# Altium footprint library Capacitor Electrolytic Snap-In Radial.PcbLib: 97 footprints (part 2 of 7)
Each footprint in its own frame and in the unit in brackets; x right, y up, seen from the top. Pads: shape width x height; smd on the part's side, far side on the other; paste and mask are expansions set on the pad; w line width, h text height; cw(c..) or ccw(c..) is an arc to the next point about the centre after c.
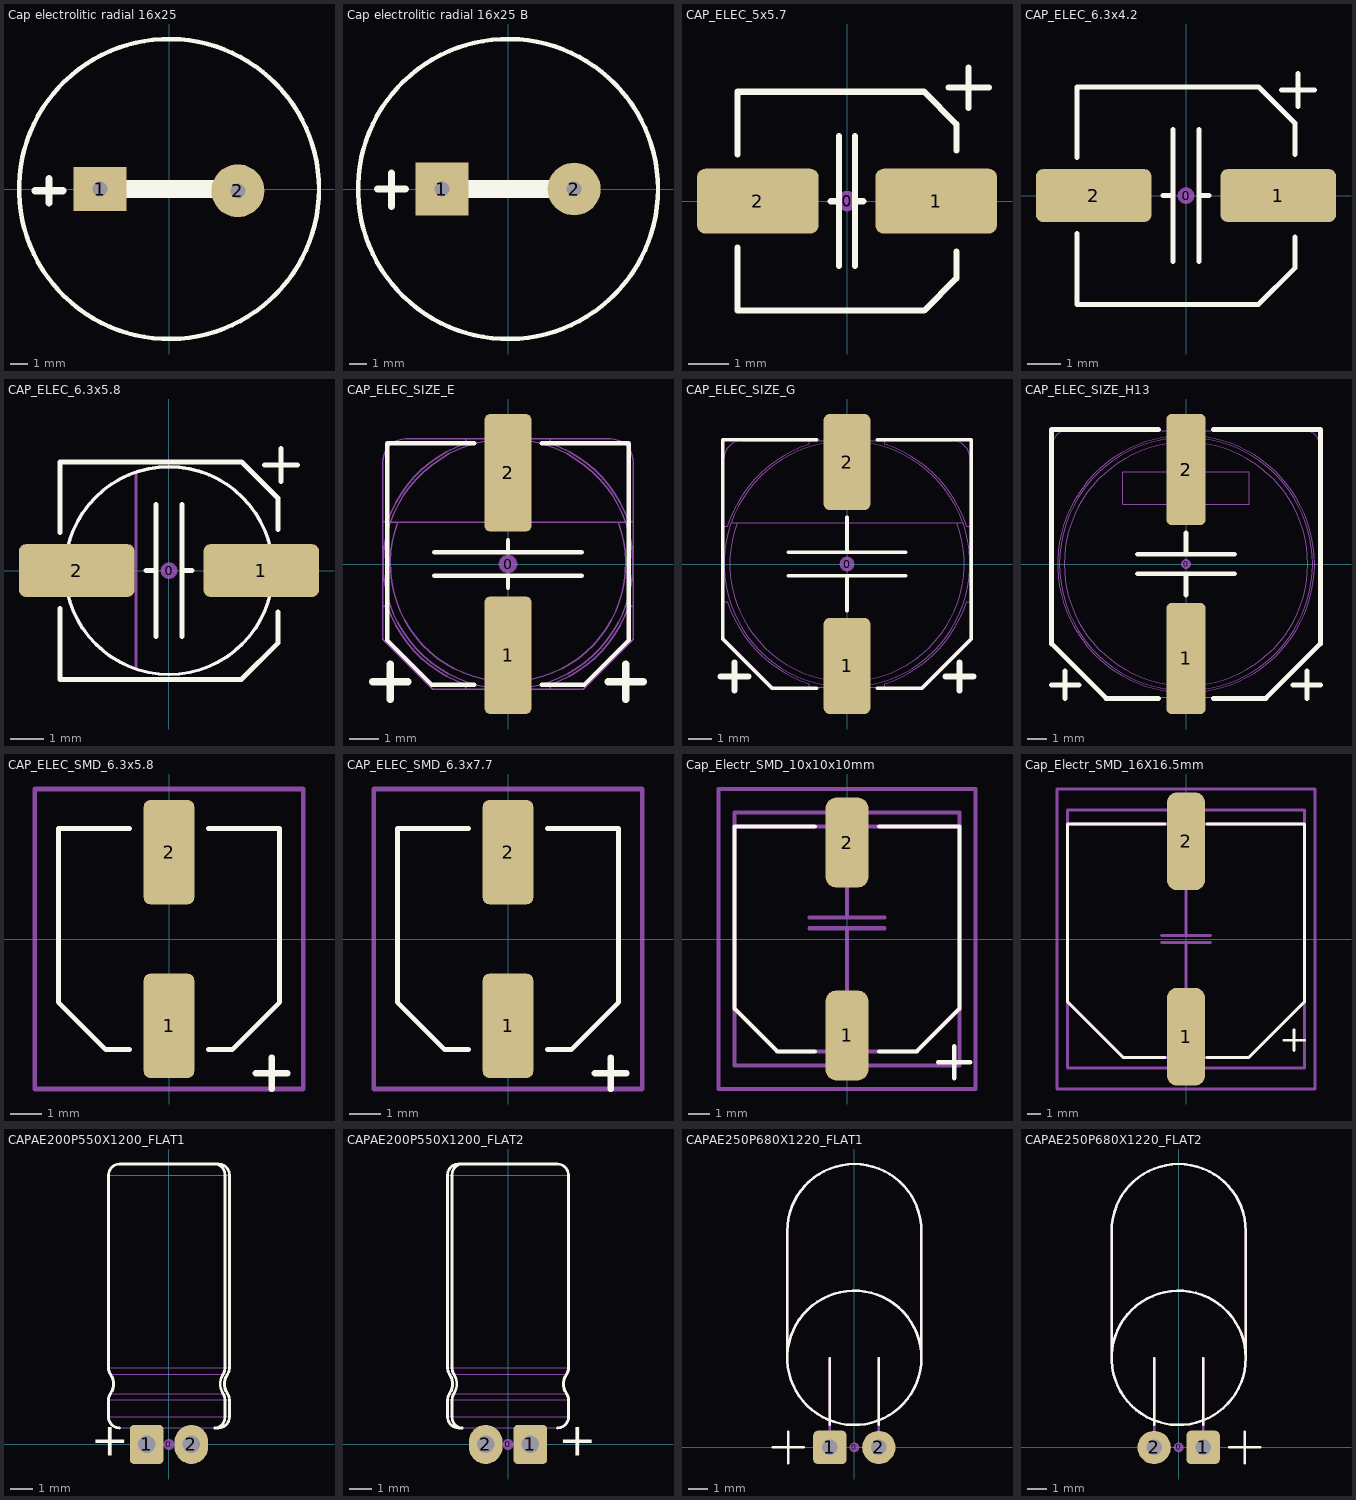
[diagram p1: the footprints below, top view; thin cyan lines are the x and y axes]

## Cap electrolitic radial 16x25 [mm]
pads (2):
  rect 3x2.5 hole 0.85: 1(-3.9,0)
  round 3 hole 0.85: 2(3.9,-0.1)
Top Overlay:
  circle w0.254: c0,0 r8.5
  lines w0.4: -7.6,-0.1 -6,-0.1 ; -6.8,-0.8 -6.8,0.6
  lines w1: -3.9,0 3.9,0
3D body "User Library-Cap electrolitic radial 16x25.STEP": height 25.8, standoff -0.7, extent -7.997,-8.099 7.997,7.898

## Cap electrolitic radial 16x25 B [mm]
pads (2):
  rect 3x3 hole 0.85: 1(-3.75,0)
  round 3 hole 0.85: 2(3.75,0)
Top Overlay:
  circle w0.254: c0,0 r8.5
  lines w0.4: -7.4,0 -5.8,0 ; -6.6,-1 -6.6,0.9
  lines w1: -3.75,0 3.75,0
3D body "User Library-Cap electrolitic radial 16x25.STEP": height 25.8, standoff -0.7, extent -7.997,-8.099 7.997,7.898

## CAP_ELEC_5x5.7 [mm] "Capacitor, polarized, aluminum can; 5x5.7mm DxH"
height 5.7
pads (3):
  round 0.508 on Mech15: 0(0,0)
  rrect25% 3x1.6 smd: 1(2.2,0) 2(-2.2,0)
Top Overlay:
  lines w0.152: -2.7,-1.15 -2.7,-2.7 1.9,-2.7 2.7,-1.9 2.7,-1.25 ; -2.7,1.15 -2.7,2.7 1.9,2.7 2.7,1.9 2.7,1.25 ; -0.4,0 -0.2,0 ; -0.2,-1.6 -0.2,1.6 ; 0.2,-1.6 0.2,1.6 ; 0.2,0 0.4,0 ; 2.5,2.8 3,2.8 3.5,2.8 ; 3,2.3 3,3.3
3D body "Cap, elec, 5x5.7_.STEP": height 5.7, standoff 0, extent -2.65,-2.65 2.65,2.65

## CAP_ELEC_6.3x4.2 [mm] "Capacitor, polarized, aluminum can; 6.3x4.2mm DxH"
height 4.2
pads (3):
  round 0.508 on Mech15: 0(0,0)
  rrect25% 3.5x1.6 smd: 1(2.8,0) 2(-2.8,0)
Top Overlay:
  lines w0.152: -3.3,-1.15 -3.3,-3.3 2.2,-3.3 3.3,-2.2 3.3,-1.25 ; -3.3,1.15 -3.3,3.3 2.2,3.3 3.3,2.2 3.3,1.25 ; -0.7,0 -0.5,0 ; -0.4,-2 -0.4,2 ; 0.4,-2 0.4,2 ; 0.5,0 0.7,0 ; 2.9,3.2 3.4,3.2 3.9,3.2 ; 3.4,2.7 3.4,3.7
3D body "Cap, elec, 6.3x4.2.STEP": height 4.23, standoff 0, extent -3.3,-3.3 3.3,3.3

## CAP_ELEC_6.3x5.8 [mm] "Capacitor, polarized, aluminum can; 6.3x5.7mm DxH"
height 6.1
pads (3):
  round 0.508 on Mech15: 0(0,0)
  rrect25% 3.5x1.6 smd: 1(2.8,0) 2(-2.8,0)
Top Overlay:
  circle w0.1: c0,0 r3.15
  lines w0.152: -3.3,-1.15 -3.3,-3.3 2.2,-3.3 3.3,-2.2 3.3,-1.25 ; -3.3,1.15 -3.3,3.3 2.2,3.3 3.3,2.2 3.3,1.25 ; -0.7,0 -0.5,0 ; -0.4,-2 -0.4,2 ; 0.4,-2 0.4,2 ; 0.5,0 0.7,0 ; 2.9,3.2 3.4,3.2 3.9,3.2 ; 3.4,2.7 3.4,3.7
Mechanical 1:
  circle w0.1: c0,0 r3.15
  circle w0.1: c0,0 r3.15
  lines w0.1: -1,-2.987 -1,2.987
3D body: height 6.1, standoff 0, extent -1,-3.15 3.15,3.125
3D body: height 6.1, standoff 0, extent -3.2,-2.987 -1,2.987
3D body: height 0.75, standoff 0, extent -0.5,-3.513 -0.5,-3.513

## CAP_ELEC_SIZE_E [mm] "Capacitor, polarized, aluminum can; 8.0x6.2mm DxH"
height 6.2
pads (3):
  round 0.635 on Mech15: 0(0,0)
  rrect25% 1.6x4 smd: 1(0,-3.1) 2(0,3.1)
Top Overlay:
  lines w0.152: -2.5,-0.4 2.5,-0.4 ; -2.5,0.4 2.5,0.4 ; -1.15,-4.1 -2.6,-4.1 -4.1,-2.6 -4.1,4.1 -1.15,4.1 ; 0,-0.8 0,-0.4 ; 0,0.4 0,0.8 ; 1.15,-4.1 2.6,-4.1 4.1,-2.6 4.1,4.1 1.15,4.1
  lines w0.254: -4.6,-4 -3.4,-4 ; -4,-4.6 -4,-3.4 ; 3.4,-4 4.6,-4 ; 4,-4.6 4,-3.4
Mechanical 13:
  lines w0.05: -4.25,-1.436 -4.106,-1.436 ccw(c0,0) -1.436,-4.106 -1.436,-4.25 ; -4.25,1.436 -4.106,1.436 cw(c0,0) -1.436,4.106 -1.436,4.25 ; -4.005,1.417 cw(c0,0) 4.005,1.417 ; -3.741,1.417 ccw(c0,0) 3.741,1.417 ; -0.325,-4.25 -0.325,-4.75 0.325,-4.75 0.325,-4.25 ; -0.325,4.25 -0.325,4.75 0.325,4.75 0.325,4.25 ; 1.436,-4.25 1.436,-4.106 ccw(c0,0) 4.106,-1.436 4.25,-1.436 ; 1.436,4.25 1.436,4.106 cw(c0,0) 4.106,1.436 4.25,1.436 ; -4.25,-2.55 -2.55,-4.25 2.55,-4.25 4.25,-2.55 4.25,3.5 ccw(c3.5,3.5) 3.5,4.25 -3.5,4.25 ccw(c-3.5,3.5) -4.25,3.5 -4.25,-2.55 ; -4.007,1.417 ccw(c0,0) 4.007,1.417 -4.007,1.417
3D body "CAP Alum Elec Size E.STEP": height 6.5, standoff 0, extent -4.25,-4.75 4.25,4.75

## CAP_ELEC_SIZE_G [mm] "Capacitor, polarized, aluminum can; 10.0x10.2mm DxH"
height 10.2
pads (3):
  round 0.635 on Mech15: 0(0,0)
  rrect25% 2x4.1 smd: 1(0,-4.35) 2(0,4.35)
Top Overlay:
  lines w0.152: -2.5,-0.5 2.5,-0.5 ; -2.5,0.5 2.5,0.5 ; -1.3,-5.3 -3.2,-5.3 -5.3,-3.2 -5.3,5.3 -1.3,5.3 ; 0,-2 0,-0.5 ; 0,0.5 0,2 ; 1.3,-5.3 3.2,-5.3 5.3,-3.2 5.3,5.3 1.3,5.3
  lines w0.254: -5.4,-4.8 -4.2,-4.8 ; -4.8,-5.4 -4.8,-4.2 ; 4.2,-4.8 5.4,-4.8 ; 4.8,-5.4 4.8,-4.2
Mechanical 13:
  lines w0.05: -5.25,-1.601 -5.105,-1.601 ccw(c0,0) -1.601,-5.105 -1.601,-5.25 ; -5.25,1.601 -5.105,1.601 cw(c0,0) -1.601,5.105 -1.601,5.25 ; -4.948,1.75 cw(c0,0) 4.948,1.75 ; -4.684,1.75 ccw(c0,0) 4.684,1.75 ; -0.45,-5.25 -0.45,-6 0.45,-6 0.45,-5.25 ; -0.45,5.25 -0.45,6 0.45,6 0.45,5.25 ; 1.601,-5.25 1.601,-5.105 ccw(c0,0) 5.105,-1.601 5.25,-1.601 ; 1.601,5.25 1.601,5.105 cw(c0,0) 5.105,1.601 5.25,1.601 ; -5.25,-3.15 -3.15,-5.25 3.15,-5.25 5.25,-3.15 5.25,4.5 ccw(c4.5,4.5) 4.5,5.25 -4.5,5.25 ccw(c-4.5,4.5) -5.25,4.5 -5.25,-3.15 ; -4.95,1.75 ccw(c0,0) 4.95,1.75 -4.95,1.75
3D body "CAP Alum Elec Size G.STEP": height 10.5, standoff 0, extent -5.25,-6 5.25,6

## CAP_ELEC_SIZE_H13 [mm] "Capacitor, polarized, aluminum can; 12.5x13.5mm DxH"
height 13.5
pads (3):
  round 0.508 on Mech15: 0(0,0)
  rrect25% 2x5.7 smd: 1(0,-4.85) 2(0,4.85)
Top Overlay:
  lines w0.254: -6.9,-6.2 -5.5,-6.2 ; -6.2,-6.9 -6.2,-5.5 ; -2.5,-0.5 2.5,-0.5 ; -2.5,0.5 2.5,0.5 ; -1.4,-6.9 -4.1,-6.9 -6.9,-4.1 -6.9,6.9 -1.4,6.9 ; 0,-1.6 0,-0.5 ; 0,0.5 0,1.6 ; 1.4,-6.9 4.1,-6.9 6.9,-4.1 6.9,6.9 1.4,6.9 ; 5.5,-6.2 6.9,-6.2 ; 6.2,-6.9 6.2,-5.5
Mechanical 13:
  circle w0.05: c0,0 r6.6
  circle w0.05: c0,0 r6.5
  circle w0.05: c0,0 r6.25
  lines w0.05: -0.45,-6.85 -0.45,-7.5 0.45,-7.5 0.45,-6.85 ; -0.45,6.85 -0.45,7.5 0.45,7.5 0.45,6.85 ; -6.85,-4.11 -4.11,-6.85 4.11,-6.85 6.85,-4.11 6.85,6.1 ccw(c6.1,6.1) 6.1,6.85 -6.1,6.85 ccw(c-6.1,6.1) -6.85,6.1 -6.85,-4.11 ; -3.25,3.055 -3.25,4.745 3.25,4.745 3.25,3.055 -3.25,3.055
3D body "CAP Alum Elec Size H13.STEP": height 14, standoff 0, extent -6.85,-7.5 6.85,7.5

## CAP_ELEC_SMD_6.3x5.8 [mm]
height 16
pads (2):
  rrect25% 1.6x3.3 smd: 1(0,-2.75) 2(0,2.75)
Top Overlay:
  lines w0.15: -1.25,-3.5 -2,-3.5 -3.5,-2 -3.5,3.5 -1.25,3.5 ; 1.25,-3.5 2,-3.5 3.5,-2 3.5,3.5 1.25,3.5
  lines w0.2: 2.75,-4.25 3.75,-4.25 ; 3.25,-4.75 3.25,-3.75
Mechanical 15:
  lines w0.15: -4.25,-4.75 -4.25,4.75 4.25,4.75 4.25,-4.75 -4.25,-4.75
3D body "User Library-A3D-003-00011.STEP": height 5.8, standoff 0, extent -3.3,-3.65 3.3,3.65

## CAP_ELEC_SMD_6.3x7.7 [mm]
height 16
pads (2):
  rrect25% 1.6x3.3 smd: 1(0,-2.75) 2(0,2.75)
Top Overlay:
  lines w0.15: -1.25,-3.5 -2,-3.5 -3.5,-2 -3.5,3.5 -1.25,3.5 ; 1.25,-3.5 2,-3.5 3.5,-2 3.5,3.5 1.25,3.5
  lines w0.2: 2.75,-4.25 3.75,-4.25 ; 3.25,-4.75 3.25,-3.75
Mechanical 15:
  lines w0.15: -4.25,-4.75 -4.25,4.75 4.25,4.75 4.25,-4.75 -4.25,-4.75
3D body "User Library-A3D-003-00012.STEP": height 7.7, standoff 0, extent -3.3,-3.65 3.3,3.65

## Cap_Electr_SMD_10x10x10mm [mm]
height 10.3
pads (2):
  rrect50% 2x4.2 smd: 1(0,-4.5) 2(0,4.5)
Top Overlay:
  lines w0.2: -1.5,-5.25 -3.25,-5.25 -5.25,-3.25 -5.25,5.25 -1.5,5.25 ; 1.5,-5.25 3.25,-5.25 5.25,-3.25 5.25,5.25 1.5,5.25 ; 4.25,-5.75 5.75,-5.75 ; 5,-6.5 5,-5
Mechanical 13:
  lines w0.2: -5.25,-5.901 5.25,-5.901 5.25,5.899 -5.25,5.899 -5.25,-5.901
Mechanical 15:
  lines w0.2: -1.75,0.5 1.75,0.5 ; -1.75,1 1.75,1 ; -1.5,5.25 -5.25,5.25 ; 0,-4.25 0,0.5 ; 0,1 0,4.5 ; -5.25,5.25 -5.25,-3.25 -3.25,-5.25 3.25,-5.25 5.25,-3.25 5.25,5.25 -5.25,5.25 ; -6,-7 -6,7 6,7 6,-7 -6,-7
3D body "User Library-cap_10x10x10-1.STEP": height 10.3, standoff -0.2, extent -5.25,-5.901 5.25,5.899

## Cap_Electr_SMD_16X16.5mm [mm]
height 10.3
pads (2):
  rrect50% 2.7x7 smd: 1(0,-7) 2(0,7)
Top Overlay:
  lines w0.2: -1.5,-8.5 -4.5,-8.5 -8.5,-4.5 -8.5,8.25 -1.5,8.25 ; 1.5,-8.5 4.5,-8.5 8.5,-4.5 8.5,8.25 1.5,8.25 ; 7,-7.25 8.5,-7.25 ; 7.75,-8 7.75,-6.5
Mechanical 13:
  lines w0.2: -8.5,-9.25 8.5,-9.25 8.5,9.25 -8.5,9.25 -8.5,-9.25
Mechanical 15:
  lines w0.2: -5.25,8.25 8.5,8.25 8.5,-4.5 4.5,-8.5 -4.5,-8.5 -8.5,-4.5 -8.5,8.25 -1.5,8.25 ; -1.75,-0.25 1.75,-0.25 ; -1.75,0.25 1.75,0.25 ; 0,-5 0,-0.25 ; 0,0.25 0,3.75 ; -9.25,-10.75 -9.25,10.75 9.25,10.75 9.25,-10.75 -9.25,-10.75
3D body "User Library-A3D-003-00020.STEP": height 16.5, standoff 0, extent -8.5,-9.2 8.5,9.2

## CAPAE200P550X1200_FLAT1 [mil]
height 216.54
pads (3):
  round 20 on Mech15: 0(0,0)
  rrect25% 60x70 hole 31.5: 1(-40,0)
  oval 60x70 hole 31.5: 2(40,0)
Top Overlay:
  lines w5: -88.58,29.53 cw(c-88.58,49.25) -108.31,49.25 -108.31,79.64 cw(c-88.58,79.64) -104.79,90.88 ccw(c-129.92,108.31) -104.79,125.74 cw(c-88.58,136.98) -108.31,136.98 -108.31,482.32 cw(c-88.58,482.32) -88.58,502.05 81.84,502.05 cw(c81.06,483.05) 100.06,482.32 100.06,136.98 cw(c79.2,136.92) 96.81,125.74 ccw(c124.34,108.31) 96.81,90.88 cw(c79.2,79.7) 100.06,79.64 100.06,49.25 cw(c81.06,48.53) 81.84,29.53 ; 82.99,29.57 88.58,29.57 ccw(c88.58,49.25) 108.27,49.25 108.27,79.64 ccw(c88.58,79.64) 104.76,90.86 cw(c129.92,108.31) 104.76,125.76 ccw(c88.58,136.98) 108.27,136.98 108.27,482.32 ccw(c88.58,482.32) 88.58,502.01 82.99,502.01
  text "+" at -140,-20 h60
Mechanical 13:
  lines w1.97: -49.21,19.68 -29.53,19.68 ; -49.21,29.53 -49.21,0 ccw(c-39.37,0) -29.53,0 -29.53,29.53 ; 29.53,19.68 49.21,19.68 ; 29.53,29.53 29.53,0 ccw(c39.37,0) 49.21,0 49.21,29.53 ; 82.99,29.57 88.58,29.57 ccw(c88.58,49.25) 108.27,49.25 ; 82.99,502.01 88.58,502.01 cw(c88.58,482.32) 108.27,482.32 ; -108.31,49.25 ccw(c-88.58,49.25) -88.58,29.53 81.84,29.53 ccw(c81.06,48.53) 100.06,49.25 100.06,79.64 ccw(c79.2,79.7) 96.81,90.88 ; -108.31,49.25 -108.31,79.64 ; -108.31,49.25 108.27,49.25 ; -108.31,79.64 cw(c-88.58,79.64) -104.79,90.88 ; -108.31,79.64 108.27,79.64 ; -108.31,136.98 ccw(c-88.58,136.98) -104.79,125.74 ; -108.31,136.98 -108.31,482.32 ; -108.31,136.98 108.27,136.98 ; -108.31,482.32 cw(c-88.58,482.32) -88.58,502.05 81.84,502.05 cw(c81.06,483.05) 100.06,482.32 100.06,136.98 cw(c79.2,136.92) 96.81,125.74 ; -108.31,482.32 108.27,482.32 ; -104.79,90.88 ccw(c-129.92,108.31) -104.79,125.74 ; -104.79,90.88 96.81,90.88 ; -104.79,125.74 96.81,125.74 ; 96.81,90.88 cw(c124.34,108.31) 96.81,125.74 ; 96.81,90.88 104.76,90.86 ; 96.81,125.74 104.76,125.76 ; 104.76,90.86 cw(c88.58,79.64) 108.27,79.64 ; 104.76,90.86 cw(c129.92,108.31) 104.76,125.76 ; 104.76,125.76 ccw(c88.58,136.98) 108.27,136.98 ; 108.27,49.25 108.27,79.64 ; 108.27,136.98 108.27,482.32
3D body "CAPAE200P550X1200_FLAT1.STEP": height 215.69, standoff -70, extent -107.37,-9.82 107.35,502.05

## CAPAE200P550X1200_FLAT2 [mil]
height 216.54
pads (3):
  round 20 on Mech15: 0(0,0)
  rrect25% 60x70 hole 31.5: 1(40,0)
  oval 60x70 hole 31.5: 2(-40,0)
Top Overlay:
  lines w5: -82.99,29.57 -88.58,29.57 cw(c-88.58,49.25) -108.27,49.25 -108.27,79.64 cw(c-88.58,79.64) -104.76,90.86 ccw(c-129.92,108.31) -104.76,125.76 cw(c-88.58,136.98) -108.27,136.98 -108.27,482.32 cw(c-88.58,482.32) -88.58,502.01 -82.99,502.01 ; -81.84,29.53 cw(c-81.06,48.53) -100.06,49.25 -100.06,79.64 cw(c-79.2,79.7) -96.81,90.88 ccw(c-124.34,108.31) -96.81,125.74 cw(c-79.2,136.92) -100.06,136.98 -100.06,482.32 cw(c-81.06,483.05) -81.84,502.05 88.58,502.05 cw(c88.58,482.32) 108.31,482.32 108.31,136.98 cw(c88.58,136.98) 104.79,125.74 ccw(c129.92,108.31) 104.79,90.88 cw(c88.58,79.64) 108.31,79.64 108.31,49.25 cw(c88.58,49.25) 88.58,29.53
  text "+" at 90,-20 h60
Mechanical 13:
  lines w1.97: -82.99,29.57 -88.58,29.57 cw(c-88.58,49.25) -108.27,49.25 ; -82.99,502.01 -88.58,502.01 ccw(c-88.58,482.32) -108.27,482.32 ; -49.21,19.68 -29.53,19.68 ; -49.21,29.53 -49.21,0 ccw(c-39.37,0) -29.53,0 -29.53,29.53 ; 29.53,19.68 49.21,19.68 ; 29.53,29.53 29.53,0 ccw(c39.37,0) 49.21,0 49.21,29.53 ; -108.27,49.25 -108.27,79.64 ; -108.27,49.25 108.31,49.25 ; -108.27,79.64 cw(c-88.58,79.64) -104.76,90.86 ; -108.27,79.64 108.31,79.64 ; -108.27,136.98 ccw(c-88.58,136.98) -104.76,125.76 ; -108.27,136.98 -108.27,482.32 ; -108.27,136.98 108.31,136.98 ; -108.27,482.32 108.31,482.32 ; -104.76,90.86 ccw(c-129.92,108.31) -104.76,125.76 ; -104.76,90.86 -96.81,90.88 ; -104.76,125.76 -96.81,125.74 ; -96.81,90.88 ccw(c-79.2,79.7) -100.06,79.64 -100.06,49.25 ccw(c-81.06,48.53) -81.84,29.53 88.58,29.53 ccw(c88.58,49.25) 108.31,49.25 ; -96.81,90.88 ccw(c-124.34,108.31) -96.81,125.74 ; -96.81,90.88 104.79,90.88 ; -96.81,125.74 cw(c-79.2,136.92) -100.06,136.98 -100.06,482.32 cw(c-81.06,483.05) -81.84,502.05 88.58,502.05 cw(c88.58,482.32) 108.31,482.32 ; -96.81,125.74 104.79,125.74 ; 104.79,90.88 cw(c88.58,79.64) 108.31,79.64 ; 104.79,90.88 cw(c129.92,108.31) 104.79,125.74 ; 104.79,125.74 ccw(c88.58,136.98) 108.31,136.98 ; 108.31,49.25 108.31,79.64 ; 108.31,136.98 108.31,482.32
3D body "CAPAE200P550X1200_FLAT2.STEP": height 215.69, standoff -70, extent -107.33,-9.82 107.39,502.05

## CAPAE250P680X1220_FLAT1 [mm]
height 6.8
pads (3):
  round 0.508 on Mech15: 0(0,0)
  rrect25% 1.7x1.7 hole 0.8: 1(-1.25,0)
  round 1.7 hole 0.8: 2(1.25,0)
Top Overlay:
  circle w0.127: c0,4.572 r3.429
  lines w0.127: -4.18,0 -2.58,0 ; -3.429,4.572 -3.429,11.049 cw(c0,11.049) 3.429,11.049 3.429,4.572 ; -3.38,-0.8 -3.38,0.8 ; -1.25,1.143 -1.25,4.552 ; 1.25,1.143 1.25,4.552
Mechanical 13:
  circle w0.127: c0,4.572 r3.429
  lines w0.127: -3.429,4.572 -3.429,11.049 cw(c0,11.049) 3.429,11.049 3.429,4.572 ; -1.25,0 -1.25,4.552 ; 1.25,0 1.25,4.552
3D body "CAPAE250P680X1220_FLAT1.STEP": height 6.77, standoff -1.78, extent -3.372,-0.249 3.371,12.952

## CAPAE250P680X1220_FLAT2 [mm]
height 6.8
pads (3):
  round 0.508 on Mech15: 0(0,0)
  rrect25% 1.7x1.7 hole 0.8: 1(1.25,0)
  round 1.7 hole 0.8: 2(-1.25,0)
Top Overlay:
  circle w0.127: c0,4.572 r3.429
  lines w0.127: -3.429,4.572 -3.429,11.049 cw(c0,11.049) 3.429,11.049 3.429,4.572 ; -1.25,1.143 -1.25,4.552 ; 1.25,1.143 1.25,4.552 ; 2.58,0 4.18,0 ; 3.38,-0.8 3.38,0.8
Mechanical 13:
  circle w0.127: c0,4.572 r3.429
  lines w0.127: -3.429,4.572 -3.429,11.049 cw(c0,11.049) 3.429,11.049 3.429,4.572 ; -1.25,0 -1.25,4.552 ; 1.25,0 1.25,4.552
3D body "CAPAE250P680X1220_FLAT2.STEP": height 6.77, standoff -1.78, extent -3.371,-0.249 3.372,12.952